# Altium integrated library display-kingbright.IntLib: 16 symbols
Pins are listed as number, name and electrical type; pins without a type are passive.

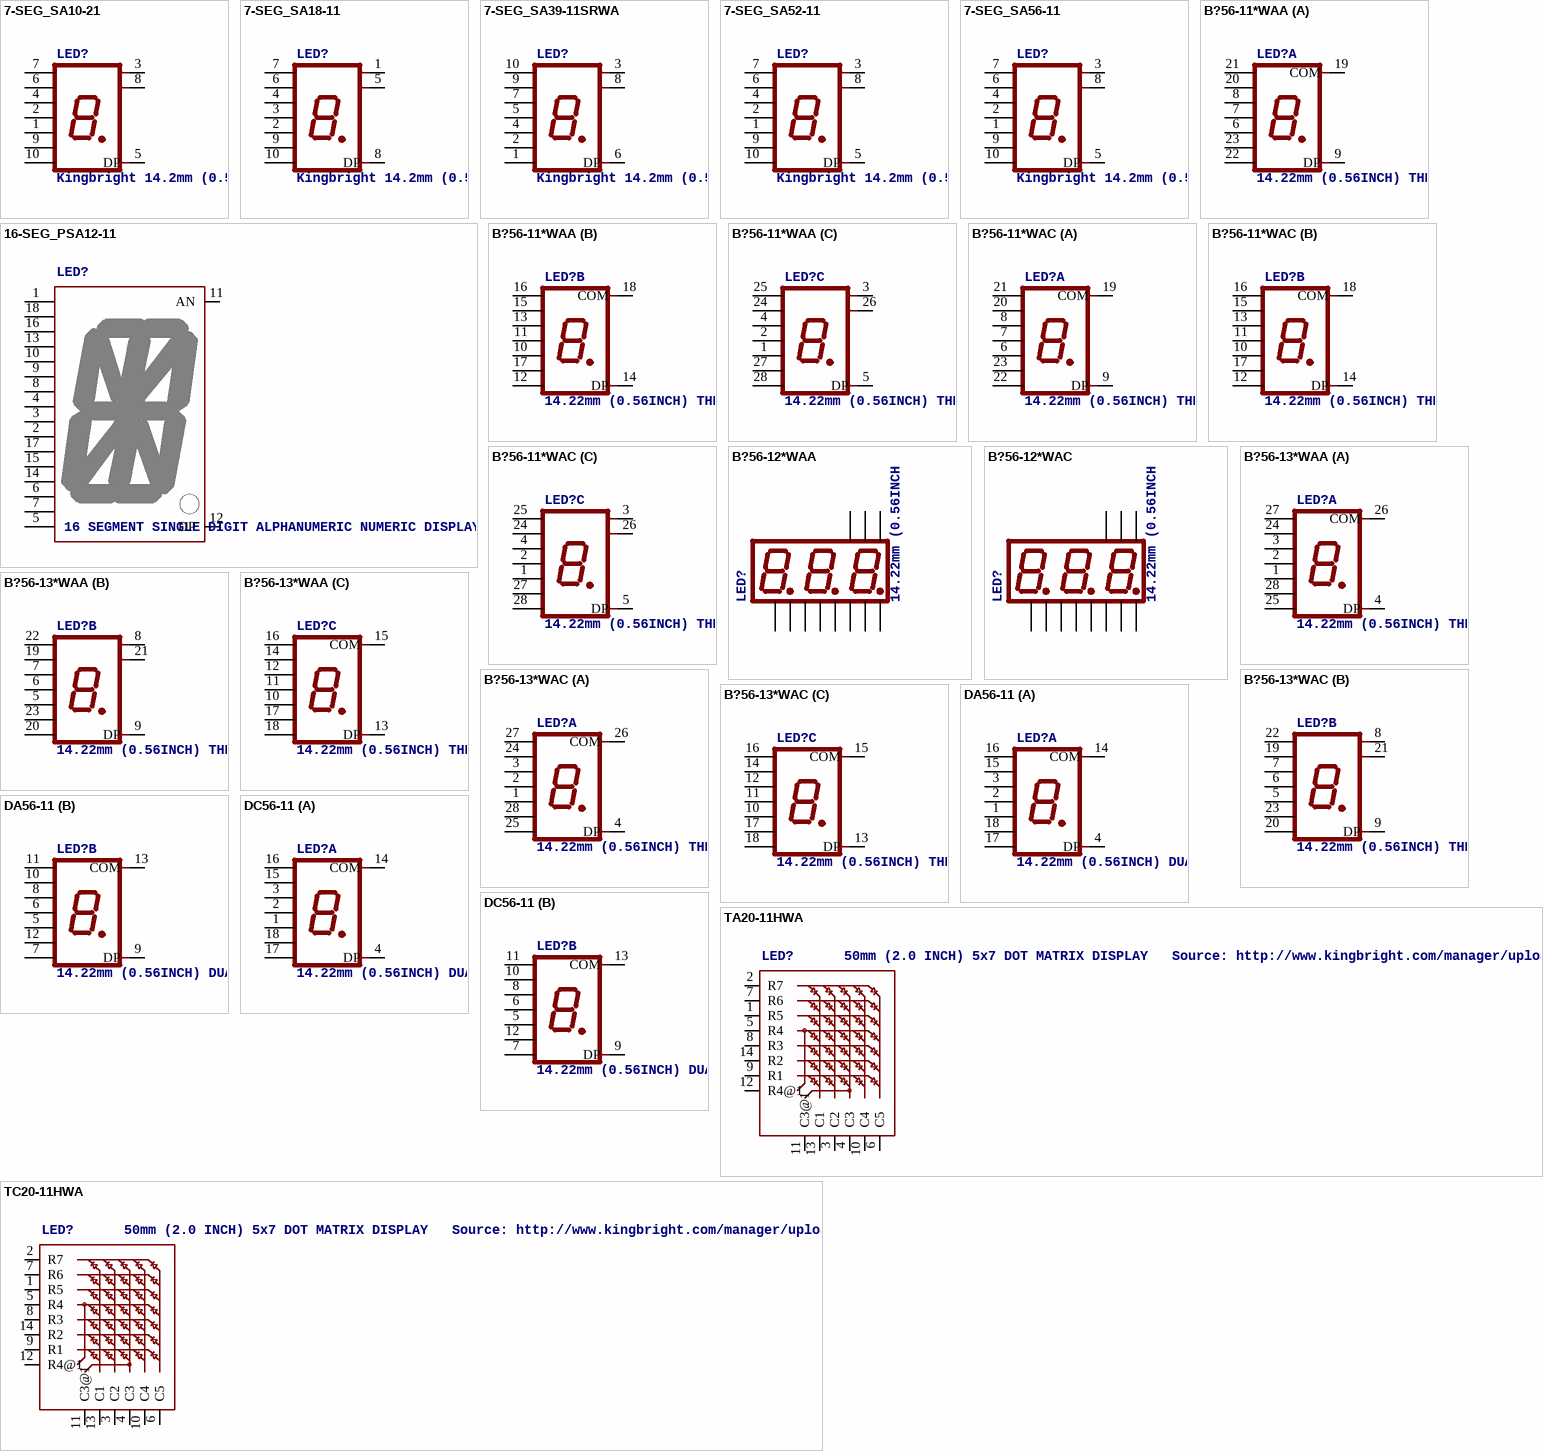
[diagram p0: symbols 7-SEG_SA10-21 to TC20-11HWA]

## 7-SEG_SA10-21
designator LED?, comment Kingbright 14.2mm (0.56 INCH) SINGLE DIGIT NUMERIC DUISPLAY   Source: SA56-11EWA(Ver1189471036.pdf
OC_FARNELL: unknown; OC_NEWARK: unknown
footprint SA10-21
pins: 1 E, 2 D, 3 COM@1, 4 C, 5 DP, 6 B, 7 A, 8 COM@2, 9 F, 10 G

## 7-SEG_SA18-11
designator LED?, comment Kingbright 14.2mm (0.56 INCH) SINGLE DIGIT NUMERIC DUISPLAY   Source: SA56-11EWA(Ver1189471036.pdf
OC_FARNELL: unknown; OC_NEWARK: unknown
footprint SA18-11
pins: 1 COM@1, 2 E, 3 D, 4 C, 5 COM@2, 6 B, 7 A, 8 DP, 9 F, 10 G

## 7-SEG_SA39-11SRWA
designator LED?, comment Kingbright 14.2mm (0.56 INCH) SINGLE DIGIT NUMERIC DUISPLAY   Source: SA56-11EWA(Ver1189471036.pdf
OC_FARNELL: unknown; OC_NEWARK: unknown
footprint SA39-11SRWA
pins: 1 G, 2 F, 3 COM@1, 4 E, 5 D, 6 DP, 7 C, 8 COM@2, 9 B, 10 A

## 7-SEG_SA52-11
designator LED?, comment Kingbright 14.2mm (0.56 INCH) SINGLE DIGIT NUMERIC DUISPLAY   Source: SA56-11EWA(Ver1189471036.pdf
OC_FARNELL: unknown; OC_NEWARK: unknown
footprint SA52-11
pins: 1 E, 2 D, 3 COM@1, 4 C, 5 DP, 6 B, 7 A, 8 COM@2, 9 F, 10 G

## 7-SEG_SA56-11
designator LED?, comment Kingbright 14.2mm (0.56 INCH) SINGLE DIGIT NUMERIC DUISPLAY   Source: SA56-11EWA(Ver1189471036.pdf
OC_FARNELL: unknown; OC_NEWARK: unknown
footprint SA56-11
pins: 1 E, 2 D, 3 COM@1, 4 C, 5 DP, 6 B, 7 A, 8 COM@2, 9 F, 10 G

## 16-SEG_PSA12-11
designator LED?, comment 16 SEGMENT SINGLE DIGIT ALPHANUMERIC NUMERIC DISPLAY
OC_FARNELL: unknown; OC_NEWARK: unknown
footprint PSA12-11
pins: 1 A, 2 M, 3 K, 4 H, 5 U, 6 S, 7 T, 8 G, 9 F, 10 E, 11 AN, 12 DP, 13 D, 14 R, 15 P, 16 C, 17 N, 18 B

## B?56-11*WAA
designator LED?, comment 14.22mm (0.56INCH) THREE DIGIT NUMERIC DISPLAY   Source: http://www.kingbright.com .. BA56-11EWA(Ver1189474895.pdf
OC_FARNELL: unknown; OC_NEWARK: unknown
footprint BA/BC56
part A pins: 6 E, 7 D, 8 C, 9 DP, 19 COM, 20 B, 21 A, 22 G, 23 F
part B pins: 10 E, 11 D, 12 G, 13 C, 14 DP, 15 B, 16 A, 17 F, 18 COM
part C pins: 1 E, 2 D, 3 COM@1, 4 C, 5 DP, 24 B, 25 A, 26 COM@2, 27 F, 28 G

## B?56-11*WAC
designator LED?, comment 14.22mm (0.56INCH) THREE DIGIT NUMERIC DISPLAY   Source: http://www.kingbright.com .. BA56-11EWA(Ver1189474895.pdf
OC_FARNELL: unknown; OC_NEWARK: unknown
footprint BA/BC56
part A pins: 6 E, 7 D, 8 C, 9 DP, 19 COM, 20 B, 21 A, 22 G, 23 F
part B pins: 10 E, 11 D, 12 G, 13 C, 14 DP, 15 B, 16 A, 17 F, 18 COM
part C pins: 1 E, 2 D, 3 COM@1, 4 C, 5 DP, 24 B, 25 A, 26 COM@2, 27 F, 28 G

## B?56-12*WAA
designator LED?, comment 14.22mm (0.56INCH) THREE DIGIT NUMERIC DISPLAY   Source: http://www.kingbright.com .. BA56-11EWA(Ver1189474895.pdf
OC_FARNELL: unknown; OC_NEWARK: unknown
footprint BX56-12
pins: 1 E, 2 D, 3 DP, 4 C, 5 G, 7 B, 8 CA@3, 9 CA@2, 10 F, 11 A, 12 CA@1

## B?56-12*WAC
designator LED?, comment 14.22mm (0.56INCH) THREE DIGIT NUMERIC DISPLAY   Source: http://www.kingbright.com .. BA56-11EWA(Ver1189474895.pdf
OC_FARNELL: unknown; OC_NEWARK: unknown
footprint BX56-12
pins: 1 E, 2 D, 3 DP, 4 C, 5 G, 7 B, 8 CA@3, 9 CA@2, 10 F, 11 A, 12 CA@1

## B?56-13*WAA
designator LED?, comment 14.22mm (0.56INCH) THREE DIGIT NUMERIC DISPLAY   Source: http://www.kingbright.com .. BA56-11EWA(Ver1189474895.pdf
OC_FARNELL: unknown; OC_NEWARK: unknown
footprint BA/BC56
part A pins: 1 E, 2 D, 3 C, 4 DP, 24 B, 25 G, 26 COM, 27 A, 28 F
part B pins: 5 E, 6 D, 7 C, 8 COM@1, 9 DP, 19 B, 20 G, 21 COM@2, 22 A, 23 F
part C pins: 10 E, 11 D, 12 C, 13 DP, 14 B, 15 COM, 16 A, 17 F, 18 G

## B?56-13*WAC
designator LED?, comment 14.22mm (0.56INCH) THREE DIGIT NUMERIC DISPLAY   Source: http://www.kingbright.com .. BA56-11EWA(Ver1189474895.pdf
OC_FARNELL: unknown; OC_NEWARK: unknown
footprint BA/BC56
part A pins: 1 E, 2 D, 3 C, 4 DP, 24 B, 25 G, 26 COM, 27 A, 28 F
part B pins: 5 E, 6 D, 7 C, 8 COM@1, 9 DP, 19 B, 20 G, 21 COM@2, 22 A, 23 F
part C pins: 10 E, 11 D, 12 C, 13 DP, 14 B, 15 COM, 16 A, 17 F, 18 G

## DA56-11
designator LED?, comment 14.22mm (0.56INCH) DUAL DIGIT NUMERIC DISPLAYS   Source: www.kingbright.com .. DA56-11SRWA.pdf
OC_FARNELL: unknown; OC_NEWARK: unknown
footprint DA56
part A pins: 1 E, 2 D, 3 C, 4 DP, 14 COM, 15 B, 16 A, 17 G, 18 F
part B pins: 5 E, 6 D, 7 G, 8 C, 9 DP, 10 B, 11 A, 12 F, 13 COM

## DC56-11
designator LED?, comment 14.22mm (0.56INCH) DUAL DIGIT NUMERIC DISPLAYS   Source: www.kingbright.com .. DA56-11SRWA.pdf
OC_FARNELL: unknown; OC_NEWARK: unknown
footprint DA56
part A pins: 1 E, 2 D, 3 C, 4 DP, 14 COM, 15 B, 16 A, 17 G, 18 F
part B pins: 5 E, 6 D, 7 G, 8 C, 9 DP, 10 B, 11 A, 12 F, 13 COM

## TA20-11HWA
designator LED?, comment 50mm (2.0 INCH) 5x7 DOT MATRIX DISPLAY   Source: http://www.kingbright.com/manager/upload/pdf/TC20-11EWA(Ver1189410378.9)
OC_FARNELL: unknown; OC_NEWARK: unknown
footprint TA20-11HWA
pins: 1 R5, 2 R7, 3 C2, 4 C3, 5 R4, 6 C5, 7 R6, 8 R3, 9 R1, 10 C4, 11 C3@1, 12 R4@1, 13 C1, 14 R2

## TC20-11HWA
designator LED?, comment 50mm (2.0 INCH) 5x7 DOT MATRIX DISPLAY   Source: http://www.kingbright.com/manager/upload/pdf/TC20-11EWA(Ver1189410378.9)
OC_FARNELL: unknown; OC_NEWARK: unknown
footprint TA20-11HWA
pins: 1 R5, 2 R7, 3 C2, 4 C3, 5 R4, 6 C5, 7 R6, 8 R3, 9 R1, 10 C4, 11 C3@1, 12 R4@1, 13 C1, 14 R2